# Altium schematic symbol library Capacitors.SchLib: 7 symbols
Pins are listed as number, name and electrical type; pins without a type are passive.

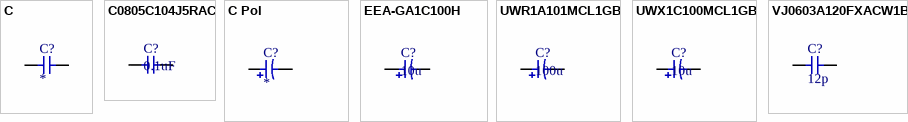
[diagram p0: symbols C to VJ0603A120FXACW1BC]

## C
designator C?
Capacitor, generic
footprint C Disc 5x2.5-2.5
footprint C0603-0.80 (Capacitor Chip 0603 Height 0.80mm)
footprint C0805-0.80 (Capacitor Chip 0805 Height 0.80)
footprint C0805-1.25 (Capacitor Chip 0805 Height 1.25mm)
footprint C1206-0.80 (Capacitor Chip 1206 Height 0.80mm)
footprint C1206-1.00 (Capacitor Chip 1206 Height 1.00mm)
footprint C1206-1.25 (Capacitor Chip 1206 Height 1.25mm)
footprint C1206-1.60 (Capacitor Chip 1206 Height 1.60mm)
footprint C1210-0.80 (Capacitor Chip 1210 Height 0.80mm)
footprint C1210-1.00 (Capacitor Chip 1210 Height 1.00mm)
footprint C1210-1.25 (Capacitor Chip 1210 Height 1.25mm)
footprint C1210-1.60 (Capacitor Chip 1210 Height 1.60mm)
footprint C1210-1.90 (Capacitor Chip 1210 Height 1.90mm)
footprint C1210-2.10 (Capacitor Chip 1210 Height 2.10mm)
footprint C1210-2.50 (Capacitor Chip 1210 Height 2.50mm)
footprint C Disc 8x2.5-5.0 (C Disc 5x2.5-5.0)
pins: 1, 2

## C0805C104J5RAC
designator C?, comment 0.1uF
Multilayer Ceramic Capacitors MLCC - SMD/SMT 50volts 0.1uF 5% X7R; Manufacturer: Kemet; Manufacturer Part Number: C0805C104J5RAC; Type: SMD MLCCs X7R, Commercial; Voltage Rating: 50 V; Case Height: 0.9 mm; Case Length: 2 mm; Case Width: 1.2 mm; Class: 2; Dissipation Factor DF: 2.5; Supplier 1: Mouser; RoHS: RoHS Compliant By Exemption; Category: Multilayer Ceramic Capacitors MLCC - SMD/SMT; Stock 1: 4000; Pricing 1: 4000=0.022, 8000=0.018, 24000=0.015, 48000=0.014, 100000=0.011 (EUR); Capacitance: 0.1 uF; Operating Temperature Range: - 55 C to + 125 C; Package/Case: 0805 (2012 metric); Packaging: Reel; Product: General Type MLCCs; Series: C0805C; Termination Style: SMD/SMT; Tolerance: 5 %; Voltage Rating DC: 50 V; Brand: Kemet; Case Code - in: 0805; Case Code - mm: 2012; Lead Spacing: 0.75 mm; Product Category: 0805 SMD Ceramic Chip Capacitors; Standard Pack Qty: 10000; Temperature Coefficient/Code: X7R; RoHS - Mouser: E; Minimum Order Quantity: 4000; Reeling: True; ComponentLink1URL: http://capacitoredge.kemet.com/capedge2/intellispec.jsp?pn=C0805C104J5RAC&displayPN=C0805C104J5RAC; ComponentLink1Description: http://capacitoredge.kemet.com/capedge2/intellispec.jsp?pn=C0805C104J5RAC&displayPN=C0805C104J5RAC
footprint C0805-0.80 (Capacitor Chip 0805 Height 0.80)
pins: 1, 2

## C Pol
designator C?
Capacitor, polarized, generic
footprint C Elec SMD 6.3x5.4 (C Elec SMD 6.3x5.4, Generic Value)
footprint C Elec TH V 4x7-2.5 (C Elec TH 4x7 2.5mm pitch)
footprint C Elec TH V 18x35-7.5 (C Elec TH 18x35 7.5mm pitch)
pins: 1, 2

## EEA-GA1C100H
designator C?, comment 10u
Aluminium Electrolytic Capacitors - Leaded 16volts 10uF 4X7mm L/S=2.5mm Ammo STR; Manufacturer: Panasonic; Manufacturer Part Number: EEA-GA1C100H; Tolerance: 20 %; Voltage Rating DC: 16 V; Leakage Current: 3 uA; Case Diameter: 4 mm; Case Length: 7 mm; Load Life: 1000 h; Ripple Current: 30 mA; Supplier 1: Mouser; RoHS: RoHS Compliant; Category: Aluminium Electrolytic Capacitors - Leaded; Stock 1: 6061; Pricing 1: 1=0.248, 10=0.131, 100=0.060, 1000=0.048, 2000=0.037, 10000=0.034, 24000=0.031, 50000=0.030, 100000=0.027 (EUR); Capacitance: 10 uF; Dimensions: 4 mm Dia. x 7 mm L; Packaging: Reel; Product: General Purpose Electrolytic Capacitors; Series: GA; Termination Style: Radial; Brand: Panasonic; Lead Spacing: 2.5 mm; Maximum Operating Temperature: + 105 C; Standard Pack Qty: 2000; RoHS - Mouser: Y; Minimum Order Quantity: 1; Reeling: True; ComponentLink1URL: http://www.mouser.com/ds/2/315/ABA0000CE99-48764.pdf; ComponentLink1Description: http://www.mouser.com/ds/2/315/ABA0000CE99-48764.pdf
footprint C Elec TH V 4x7-2.5 (C Elec TH 4x7 2.5mm pitch)
pins: 1, 2

## UWR1A101MCL1GB
designator C?, comment 100u
Aluminium Electrolytic Capacitors - SMD 100UF    10V; Manufacturer: Nichicon; Manufacturer Part Number: UWR1A101MCL1GB; Tolerance: 20 %; Leakage Current: 75.2 uA; Case Diameter: 5 mm; Case Height: 5.5 mm; Dissipation Factor DF: 0.24; Load Life: 2000 h; Ripple Current: 54 mA; Product Status: New Product; Supplier 1: Mouser; RoHS: RoHS Compliant; Category: Aluminium Electrolytic Capacitors - SMD; Stock 1: 0; Pricing 1: 1=0.224, 10=0.105, 100=0.062, 1000=0.055, 2000=0.046, 10000=0.041, 25000=0.038, 50000=0.035, 100000=0.031 (EUR); Capacitance: 100 uF; Packaging: Reel; Product: Aluminum Electrolytic Capacitors; Series: WR; Termination Style: SMD/SMT; Voltage Rating DC: 10 V; Case Length: 5.5 mm; Maximum Operating Temperature: + 85 C; Minimum Operating Temperature: - 40 C; Product Category: SMD Aluminum Electrolytic Capacitors; Standard Pack Qty: 1000; RoHS - Mouser: Y; Minimum Order Quantity: 1; Reeling: True; ComponentLink1URL: http://www.mouser.com/ds/2/293/e-wx-247651.pdf; ComponentLink1Description: http://www.mouser.com/ds/2/293/e-wx-247651.pdf
footprint C Elec SMD 6.3x5.4-100u-10V (C Elec SMD 6.3x5.4, 100uF, 10V)
pins: 1, 2

## UWX1C100MCL1GB
designator C?, comment 10u
Aluminium Electrolytic Capacitors - SMD 16volts 10uF 20%; Manufacturer: Nichicon; Manufacturer Part Number: UWX1C100MCL1GB; Type: SMD Aluminum Electrolytic Capacitors; Voltage Rating DC: 16 V; Leakage Current: 3 uA; Case Diameter: 4 mm; Case Length: 5.4 mm; Dissipation Factor DF: 0.16; Load Life: 2000 h; Ripple Current: 23 mA; Supplier 1: Mouser; RoHS: RoHS Compliant; Category: Aluminium Electrolytic Capacitors - SMD; Stock 1: 4333; Pricing 1: 1=0.376, 10=0.282, 100=0.064, 1000=0.042, 2000=0.042, 4000=0.038, 8000=0.034, 24000=0.029, 48000=0.024 (EUR); Capacitance: 10 uF; Packaging: Reel; Product: Aluminum Electrolytic Capacitors; Series: WX; Termination Style: SMD/SMT; Tolerance: 20 %; Brand: Nichicon; Maximum Operating Temperature: + 85 C; Minimum Operating Temperature: - 40 C; Product Category: SMD Aluminum Electrolytic Capacitors; Standard Pack Qty: 2000; RoHS - Mouser: Y; Minimum Order Quantity: 1; Reeling: True; ComponentLink1URL: http://nichicon-us.com/english/products/pdfs/e-wx.pdf; ComponentLink1Description: http://nichicon-us.com/english/products/pdfs/e-wx.pdf
footprint C Elec SMD 4x5.4-10u-16V (C Elec SMD 4x5.4, 10uF, 16V)
pins: 1, 2

## VJ0603A120FXACW1BC
designator C?, comment 12p
Multilayer Ceramic Capacitors MLCC - SMD/SMT 0603 12pF 50volts C0G 1%; Manufacturer: Vishay / Vitramon; Manufacturer Part Number: VJ0603A120FXACW1BC; Type: Ultra Small Commodity MLCCs; Voltage Rating: 50 V; Case Height: 0.95 mm; Case Length: 1.6 mm; Case Width: 0.8 mm; Dissipation Factor DF: 0.1; Temperature Coefficient / Code: C0G (NP0); Supplier 1: Mouser; RoHS: RoHS Compliant; Category: Multilayer Ceramic Capacitors MLCC - SMD/SMT; Stock 1: 12940; Pricing 1: 1=0.081, 50=0.057, 100=0.045, 500=0.032, 1000=0.026, 4000=0.016, 8000=0.015, 20000=0.014 (AUD); Capacitance: 12 pF; Operating Temperature Range: - 55 C to + 125 C; Package / Case: 0603 (1608 metric); Packaging: Reel; Product: General Type MLCCs; Series: VJ...W1BC; Termination Style: SMD/SMT; Tolerance: 1 %; Brand: Vishay / Vitramon; Case Code - in: 0603; Case Code - mm: 1608; Product Category: Ceramic Chip Capacitors; Standard Pack Qty: 4000; RoHS - Mouser: Y; Minimum Order Quantity: 1; Reeling: True; ComponentLink1URL: http://www.vishay.com/docs/45199/vjcommercialseries.pdf; ComponentLink1Description: http://www.vishay.com/docs/45199/vjcommercialseries.pdf
footprint C0603-0.80 (Capacitor Chip 0603 Height 0.80mm)
pins: 1, 2